# EAGLE library part 4562 (library 45xx)
128-bit static SHIFT REGISTER
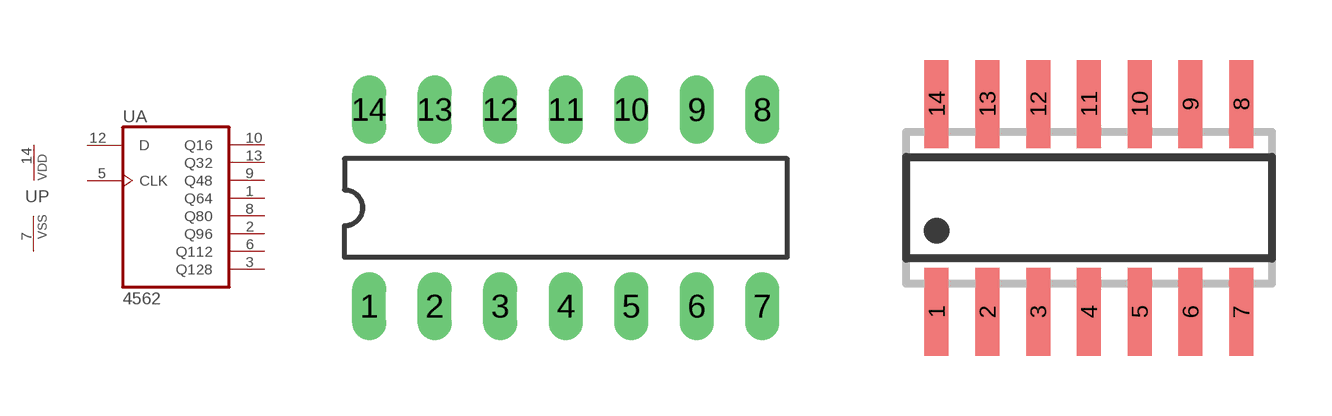
[diagram p41: symbol with the pads of DIL14; footprints DIL14, SO14]

Designator prefix U; gates A=4562 P=PWRN

## 4562N  [DIL14]
1  A:Q64  out
2  A:Q96  out
3  A:Q128  out
5  A:CLK  in
6  A:Q112  out
7  P:VSS  pwr
8  A:Q80  out
9  A:Q48  out
10  A:Q16  out
12  A:D  in
13  A:Q32  out
14  P:VDD  pwr

## 4562D  [SO14]
Pads as for DIL14

## Footprint DIL14 (pad centres in mm)
Dual In Line Package
drill 0.813 long: 1 -7.62,-3.81; 2 -5.08,-3.81; 3 -2.54,-3.81; 4 0,-3.81; 5 2.54,-3.81; 6 5.08,-3.81; 7 7.62,-3.81; 8 7.62,3.81; 9 5.08,3.81; 10 2.54,3.81; 11 0,3.81; 12 -2.54,3.81; 13 -5.08,3.81; 14 -7.62,3.81

## Footprint SO14 (pad centres in mm)
SMALL OUTLINE INTEGRATED CIRCUIT body 3.9 mm/JEDEC MS-012AC
smd 0.6 x 2.2: 1 -3.81,-2.6; 2 -2.54,-2.6; 3 -1.27,-2.6; 4 0,-2.6; 5 1.27,-2.6; 6 2.54,-2.6; 7 3.81,-2.6; 8 3.81,2.6; 9 2.54,2.6; 10 1.27,2.6; 11 0,2.6; 12 -1.27,2.6; 13 -2.54,2.6; 14 -3.81,2.6